# Altium integrated library LM2596-Adj.IntLib: 1 symbol
Pins are listed as number, name and electrical type; pins without a type are passive.

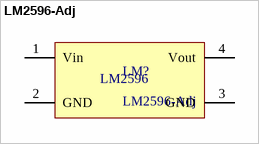
[diagram p0: symbol LM2596-Adj]

## LM2596-Adj
designator LM?
Designed By @Alixahedi
footprint lm2596
pins: 1 Vin, 2 GND, 3 GND, 4 Vout
text: LM2596